# Altium footprint library EButterflyPcbLib.PcbLib: 106 footprints (part 4 of 7)
Each footprint in its own frame and in the unit in brackets; x right, y up, seen from the top. Pads: shape width x height; smd on the part's side, far side on the other; paste and mask are expansions set on the pad; w line width, h text height; cw(c..) or ccw(c..) is an arc to the next point about the centre after c.
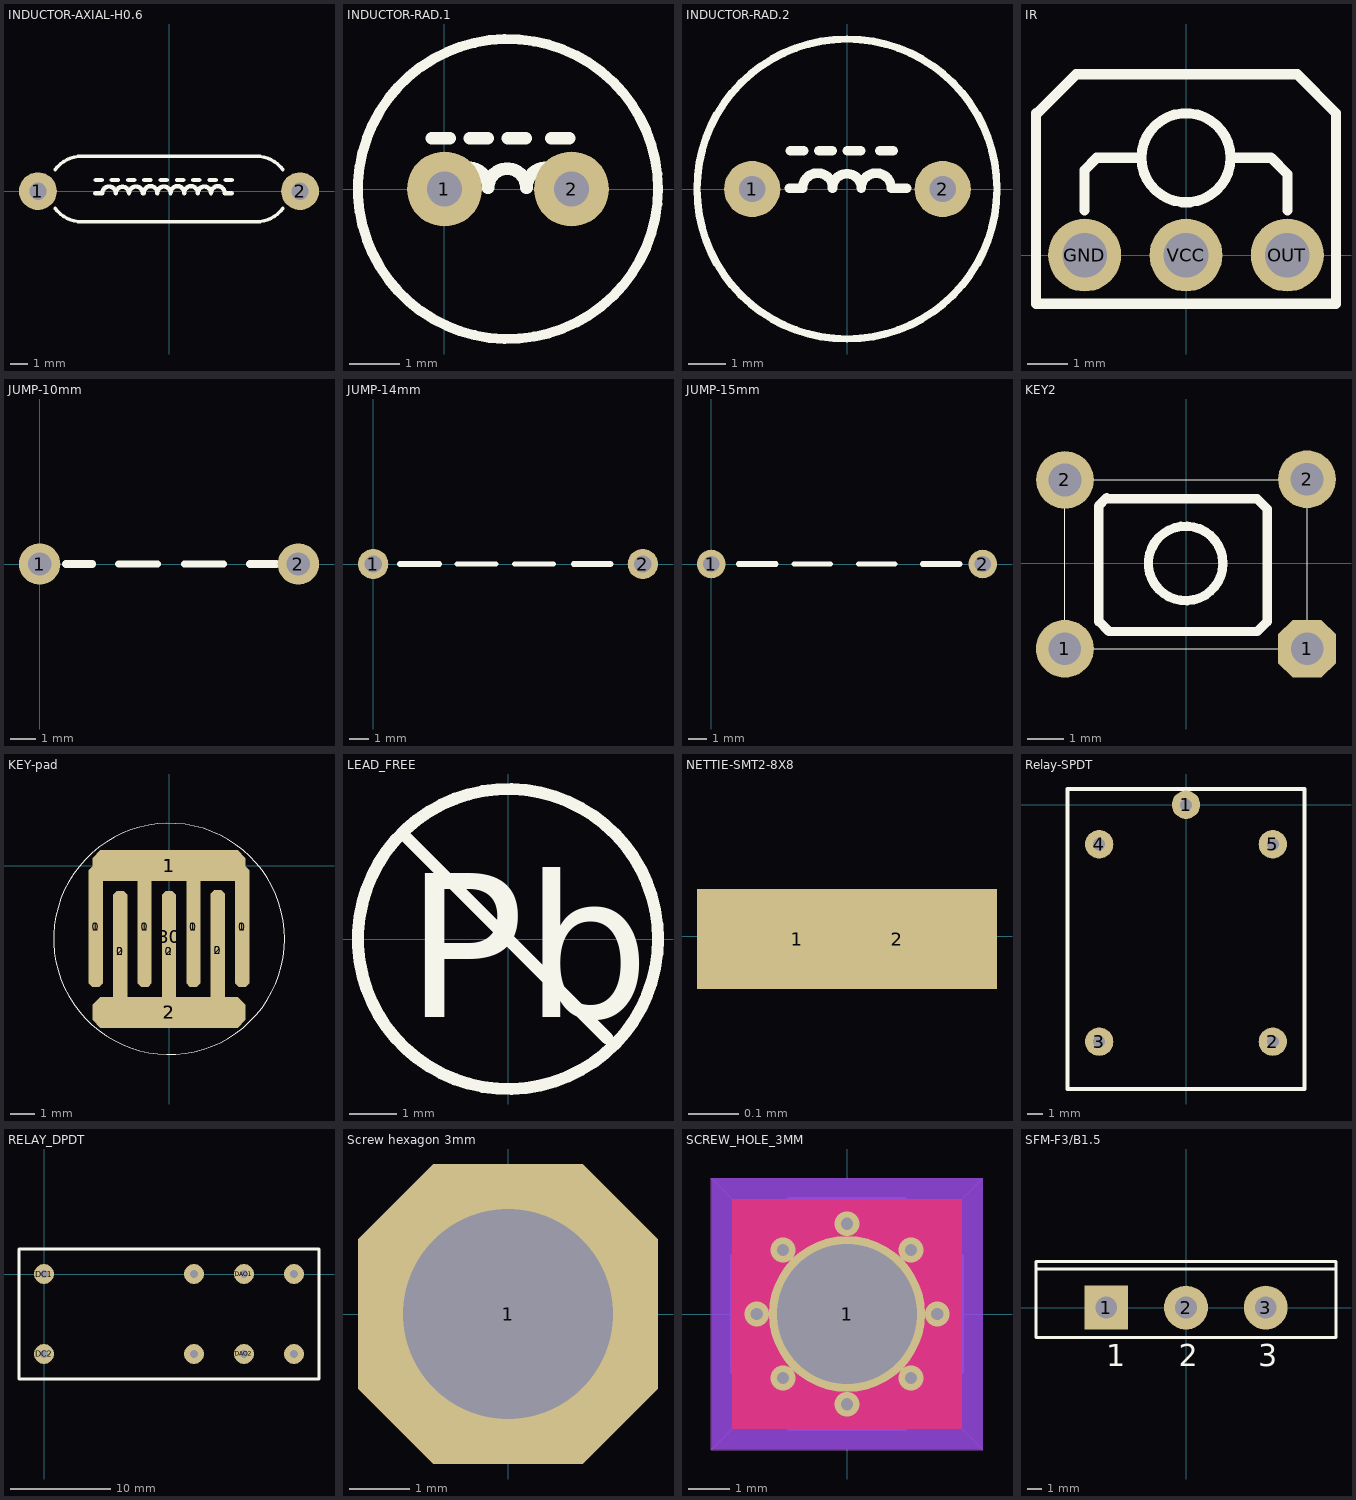
[diagram p3: the footprints below, top view; thin cyan lines are the x and y axes]

## INDUCTOR-AXIAL-H0.6 [mm]
pads (2):
  round 2.2 hole 1: 1(-7.62,0) 2(7.62,0)
Top Overlay:
  lines w0.2: -6.621,-0.993 ccw(c-5.08,0.127) -5.08,-1.778 5.08,-1.778 ccw(c5.08,0.127) 6.621,-0.993 ; -6.621,1.247 cw(c-5.08,0.127) -5.08,2.032 5.08,2.032 cw(c5.08,0.127) 6.621,1.247
  lines w0.254: -4.293,-0.127 -3.886,-0.127 cw(c-3.486,-0.127) -3.086,-0.127 ; -4.267,0.65 -3.912,0.65 ; -3.321,0.65 -2.966,0.65 ; -3.091,-0.127 cw(c-2.708,-0.127) -2.324,-0.127 cw(c-1.924,-0.127) -1.524,-0.127 ; -2.375,0.65 -2.02,0.65 ; -1.472,-0.111 cw(c-1.072,-0.111) -0.672,-0.111 ; -1.43,0.65 -1.074,0.65 ; -0.677,-0.111 cw(c-0.293,-0.111) 0.09,-0.111 cw(c0.49,-0.111) 0.89,-0.111 ; -0.484,0.65 -0.128,0.65 ; 0.462,0.65 0.818,0.65 ; 0.878,-0.111 cw(c1.278,-0.111) 1.678,-0.111 ; 1.408,0.65 1.764,0.65 ; 1.673,-0.111 cw(c2.057,-0.111) 2.44,-0.111 cw(c2.84,-0.111) 3.24,-0.111 3.647,-0.111 ; 2.354,0.65 2.71,0.65 ; 3.3,0.65 3.656,0.65
3D body: height 7.26, standoff -2, extent -8.02,-2.76 8.02,2.76

## INDUCTOR-RAD.1 [mm]
pads (2):
  round 1.5 hole 0.7: 1(0,0) 2(2.54,0)
Top Overlay:
  circle w0.2: c1.27,0 r3
  lines w0.254: -0.279,0.025 0.076,0.025 cw(c0.476,0.025) 0.876,0.025 ; -0.254,1.016 0.102,1.016 ; 0.508,1.016 0.864,1.016 ; 0.871,0.025 cw(c1.255,0.025) 1.638,0.025 cw(c2.038,0.025) 2.438,0.025 2.845,0.025 ; 1.27,1.016 1.626,1.016 ; 2.134,1.016 2.489,1.016
3D body: height 10, standoff 2, extent -1.739,-3.009 4.279,3.009
3D body: height 3, standoff -2, extent -0.746,-0.746 0.746,0.746
3D body: height 3, standoff -2, extent 1.794,-0.746 3.286,0.746

## INDUCTOR-RAD.2 [mm]
pads (2):
  round 1.5 hole 0.7: 1(-2.54,0) 2(2.54,0)
Top Overlay:
  circle w0.2: c-0.012,0 r4
  lines w0.254: -1.549,0.025 -1.194,0.025 cw(c-0.794,0.025) -0.394,0.025 ; -1.524,1.016 -1.168,1.016 ; -0.762,1.016 -0.406,1.016 ; -0.399,0.025 cw(c-0.015,0.025) 0.368,0.025 cw(c0.768,0.025) 1.168,0.025 1.575,0.025 ; 0,1.016 0.356,1.016 ; 0.864,1.016 1.219,1.016
3D body: height 12, standoff 2, extent -4.024,-4.012 4,4.012
3D body: height 3, standoff -2, extent -3.286,-0.746 -1.794,0.746
3D body: height 3, standoff -2, extent 1.794,-0.746 3.286,0.746

## IR [mm] "IR RECEVIER"
height 1.99
pads (3):
  round 1.8 hole 1.1: GND(-2.5,0) OUT(2.5,0) VCC(0,0)
Top Overlay:
  circle w0.25: c0,2.4 r1.1
  lines w0.25: -3.7,3.5 -3.7,-1.2 3.7,-1.2 3.7,3.5 ; -2.5,2.1 -2.2,2.4 -1.1,2.4 ; -2.5,1.1 -2.5,2.1 ; 1.1,2.4 2.1,2.4 2.5,2 2.5,1.1
  lines w0.254: -3.7,3.5 -3.666,3.5 -2.707,4.459 2.741,4.459 3.7,3.5
3D body: height 9, standoff -2, extent -3.85,-1.204 3.85,1.778

## JUMP-10mm [mm]
pads (2):
  round 1.6 hole 0.9: 1(0,0) 2(10,0)
Top Overlay:
  lines w0.254: 3.048,0 4.572,0 ; 5.588,0 7.112,0
  lines w0.305: 1.016,0 2.032,0 ; 8.128,0 9.144,0

## JUMP-14mm [mil]
pads (2):
  round 62 hole 35.43: 1(0,0) 2(551.18,0)
Top Overlay:
  lines w10: 171,0 251,0 ; 289,0 369,0
  lines w12: 55,0 135,0 ; 410,0 485,0

## JUMP-15mm [mil]
pads (2):
  round 62 hole 35.43: 1(0,0) 2(590.55,0)
Top Overlay:
  lines w10: 180,0 260,0 ; 320,0 400,0
  lines w12: 60,0 140,0 ; 460,0 540,0

## KEY2 [mil]
pads (4):
  round 62 hole 35: 1(-130,-92) 2(-129.91,89.1) 2(129.84,89.89)
  oct 62x62 hole 35: 1(129.93,-92)
Top Overlay:
  circle w10: c-0.44,-0.39 r40
  lines w1: -136.13,89.1 129.93,89.1 129.93,-92 -129.91,-92 -129.91,92.55
  lines w10: -94,-62.09 -82.59,-73.5 -81.01,-73.5 76.47,-73.5 87.1,-62.88 87.1,57.99 76.08,69.01 -68.02,69.01 -85.74,69.01 ; -94,61.14 -84.95,70.19 ; -93.61,-62.88 -93.61,60.35

## KEY-pad [mm]
pads (19):
  oct 0.6x5 on Top Paste: 0(-3.048,-2.54) 0(-2.032,-3.556) 0(-1.011,-2.54) 0(0,-3.556) 0(1.016,-2.54) 0(2.032,-3.505) 0(3.048,-2.54)
  oct 0.6x5 smd: 1(-3.048,-2.54) 1(-1.016,-2.54) 1(1.016,-2.54) 1(3.048,-2.54) 2(-2.032,-3.556) 2(0,-3.556) 2(2.032,-3.505)
  oct 6.35x1.27 smd: 1(0,0) 2(0,-6.096)
  oct 6.35x1.27 on Top Paste: 1(0,0) 2(0,-6.096)
  rect 6.5x6.6 on Top Solder: 80(0.002,-2.953)
Top Overlay:
  circle w0.025: c0.005,-3.043 r4.792

## LEAD_FREE [mm]
Top Overlay:
  circle w0.254: c0,0 r3.172
  lines w0.254: -2.121,2.121 2.106,-2.106
  text "Pb" at -2.159,-1.651 h3.05

## NETTIE-SMT2-8X8 [mm]
pads (2):
  rect 0.4x0.2 smd paste-0.11 mask-0.11: 1(-0.891,-0.006) 2(-0.691,-0.006)

## Relay-SPDT [mm]
height 15.5
pads (5):
  round 1.8 hole 0.762: 1(0,0) 2(5.5,-15) 3(-5.5,-15) 4(-5.5,-2.5) 5(5.5,-2.5)
Top Overlay:
  lines w0.254: -7.5,-18 -7.5,1 7.5,1 7.5,-18 -7.5,-18
3D body: height 16, standoff 0.5, extent -7.627,-18.127 7.627,1.127
3D body: height 4, standoff -2, extent -0.404,-0.404 0.404,0.404
3D body: height 4, standoff -2, extent 5.096,-2.904 5.904,-2.096
3D body: height 4, standoff -2, extent -5.904,-2.904 -5.096,-2.096
3D body: height 4, standoff -2, extent 5.096,-15.404 5.904,-14.596
3D body: height 4, standoff -2, extent -5.904,-15.404 -5.096,-14.596

## RELAY_DPDT [mm]
pads (8):
  round 2 hole 0.8: DAO1(20,0) DAO1L(15,0) DAO1R(25,0) DAO2(20,-8) DAO2L(15,-8) DAO2R(25,-8) DC1(0,0) DC2(0,-8)
Top Overlay:
  lines w0.254: -2.5,-10.5 -2.5,2.5 27.5,2.5 27.5,-10.5 26.5,-10.5 -2.5,-10.5
3D body: height 4, standoff -2, extent -0.429,-0.429 0.379,0.379
3D body: height 4, standoff -2, extent -0.429,-8.429 0.379,-7.621
3D body: height 4, standoff -2, extent 14.571,-8.429 15.379,-7.621
3D body: height 4, standoff -2, extent 24.571,-8.429 25.379,-7.621
3D body: height 4, standoff -2, extent 24.571,-0.429 25.379,0.379
3D body: height 4, standoff -2, extent 19.571,-0.429 20.379,0.379
3D body: height 4, standoff -2, extent 14.571,-0.429 15.379,0.379
3D body: height 4, standoff -2, extent 19.571,-8.429 20.379,-7.621
3D body: height 15, standoff 0.5, extent -2.627,-10.627 27.627,2.627

## Screw hexagon 3mm [mm] "screw hole"
pads (1):
  oct 5x5 hole 3.5: 1(0,0)

## SCREW_HOLE_3MM [mm]
pads (1):
  round 3.8 hole 3.4 mask+0.2: 1(0,0)
via 1.556,1.556 diameter 0.6 hole 0.3
via 2.2,0 diameter 0.6 hole 0.3
via 1.556,-1.556 diameter 0.6 hole 0.3
via 0,-2.2 diameter 0.6 hole 0.3
via -1.556,-1.556 diameter 0.6 hole 0.3
via -2.2,0 diameter 0.6 hole 0.3
via -1.556,1.556 diameter 0.6 hole 0.3
via 0,2.2 diameter 0.6 hole 0.3
Top Layer:
  circle w1: c0,0 r2.3
  rectangle: -2.8,-2.8 2.8,2.8
Top Layer keep-out:
  rectangle: -3.3,-3.3 3.3,3.3
Bottom Layer:
  rectangle: -2.8,-2.8 2.8,2.8
Bottom Layer keep-out:
  rectangle: -3.3,-3.3 3.3,3.3
Top Solder:
  rectangle: -3.2,-3.2 3.2,3.2
Bottom Solder:
  rectangle: -3,-3 3,3
Keep-Out Layer:
  circle w1.2: c0,0 r2.5
Mechanical 2:
  lines w0.025: -3.3,-3.3 -3.3,3.3 ; -3.3,-3.3 3.3,-3.3 ; -3.3,-3.3 0,0 ; -3.3,3.3 0,0 ; -3.3,3.3 3.3,3.3 ; 0,0 3.3,3.3 ; 0,0 3.3,-3.3 ; 3.3,-3.3 3.3,3.3
Mechanical 7:
  circle w0.1: c0,0.002 r2.7
  circle w1.2: c0,0 r2.2
  rectangle: 0.5,0.8 1.6,1.6
  region: 1.6,0.5 1.6,1.6 0.8,1.6 0.8,0.5
  region: 0.5,0.8 0.8,0.5 1.366,1.066 1.066,1.366
  region: -0.8,0.5 -0.8,1.6 -1.6,1.6 -1.6,0.5
  region: -0.5,1.6 -1.6,1.6 -1.6,0.8 -0.5,0.8
  region: -0.8,0.5 -0.5,0.8 -1.066,1.366 -1.366,1.066
  region: -0.5,-0.8 -1.6,-0.8 -1.6,-1.6 -0.5,-1.6
  region: -1.6,-0.5 -1.6,-1.6 -0.8,-1.6 -0.8,-0.5
  region: -0.5,-0.8 -0.8,-0.5 -1.366,-1.066 -1.066,-1.366
  region: 0.8,-0.5 0.8,-1.6 1.6,-1.6 1.6,-0.5
  rectangle: 0.5,-1.6 1.6,-0.8
  region: 0.8,-0.5 0.5,-0.8 1.066,-1.366 1.366,-1.066
Mechanical 8:
  circle w0.6: c0,0 r2
  rectangle: 1.7,-1.4 2.8,1.4
  region: -1.951,-0.551 -2.8,-1.4 -1.4,-2.8 -0.551,-1.951
  region: -0.551,1.951 -1.4,2.8 -2.8,1.4 -1.951,0.551
  region: 1.951,0.551 2.8,1.4 1.4,2.8 0.551,1.951
  region: 0.551,-1.951 1.4,-2.8 2.8,-1.4 1.951,-0.551
  region: -1.4,-1.7 -1.4,-2.8 1.4,-2.8 1.4,-1.7
  region: 1.4,1.7 1.4,2.8 -1.4,2.8 -1.4,1.7
  rectangle: -2.8,-1.4 -1.7,1.4
  lines w0.1: -2.8,-1.4 -1.4,-2.8 1.4,-2.8 2.8,-1.4 2.8,1.4 1.4,2.8 -1.4,2.8 -2.8,1.4 -2.8,-1.4

## SFM-F3/B1.5 [mm] "SIP with Mounting Hole; 3 Leads; Body 26 x 20 x 5 mm (typ); Pitch 5.45 mm"
height 29
pads (3):
  rect 3x3 hole 1.5: 1(-5.45,0)
  round 3 hole 1.5: 2(0,0) 3(5.45,0)
Top Overlay:
  lines w0.2: -10.25,2.65 10.25,2.65 ; -10.25,-2.05 10.25,-2.05 10.25,3.15 -10.25,3.15 -10.25,-2.05
  text "1" at -5.45,-4.025 h1.5
  text "2" at -0.508,-4.025 h1.5
  text "3" at 4.942,-4.025 h1.5